# EAGLE library part 615008137121 (library 615008185221_Eagle_WR-MJ_rev20b)
WR-MJ Modular Jack THT Horizontal Plastic 8P8C Tab Down Kind Properties Quality Class:500 Mating cycles General Information Operating Temperature:-40 up to +85 °C Compliance:RoHS Electrical Properties IR 1:1.5A Working Voltage:120V (AC) Withstanding Voltage:1000V (AC) Contact Resistance:20mΩ RISO:500 MΩ Material Properties Insulator MateriaL:PBT Insulator Flammability Rating:UL94 V-0 Color:Black Contact Material Copper Alloy Contact Plating:Gold Contact Type:Stamped Shielding Material:Bronze Shielding Plating:Nickel Packaging Properties Packaging:Tray <https://www.we-online.com/catalog/media/o60728v209%20Family_I_O_MJ-H_Plastic_Down_615008137121_pf2.jpg> Details see: https://www.we-online.com/catalog/en/MJ_THT_HORIZONTAL_PLASTIC_8P8C_TAB_DOWN/ Updated by Yingchun,Shan 2020-01-07 2020 (C) Würth Elektronik
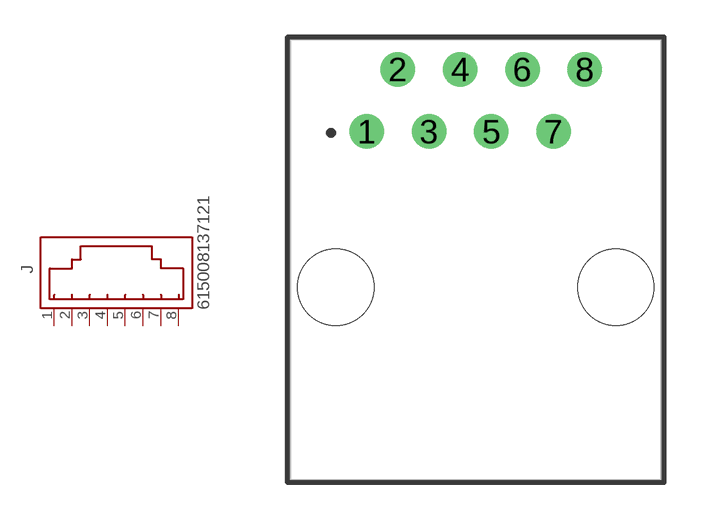
[diagram p28: symbol with the pads of 615008137121; footprint 615008137121]

Designator prefix J

## 615008137121 (DATASHEET-URL: https://www.we-online.com/catalog/datasheet/615008137121.pdf; MOUNT: THT; PART-NUMBER: 615008137121; TYPE: Horizontal; VALUE: 615008137121; XPXC: 8P8C)  [615008137121]
1  8  pas
2  7  pas
3  6  pas
4  5  pas
5  4  pas
6  3  pas
7  2  pas
8  1  pas

## Footprint 615008137121 (pad centres in mm)
WR-MJ Horizontal Plastic 8P8C Modular Jack Tab Down, 8 Pins
drill 0.9: 1 -4.445,5.23; 2 -3.175,7.77; 3 -1.905,5.23; 4 -0.635,7.77; 5 0.635,5.23; 6 1.905,7.77; 7 3.175,5.23; 8 4.445,7.77
hole 3.1 at -5.715,-1.12
hole 3.1 at 5.715,-1.12